# Altium footprint library Tool.PcbLib: 85 footprints (part 6 of 6)
Each footprint in its own frame and in the unit in brackets; x right, y up, seen from the top. Pads: shape width x height; smd on the part's side, far side on the other; paste and mask are expansions set on the pad; w line width, h text height; cw(c..) or ccw(c..) is an arc to the next point about the centre after c.
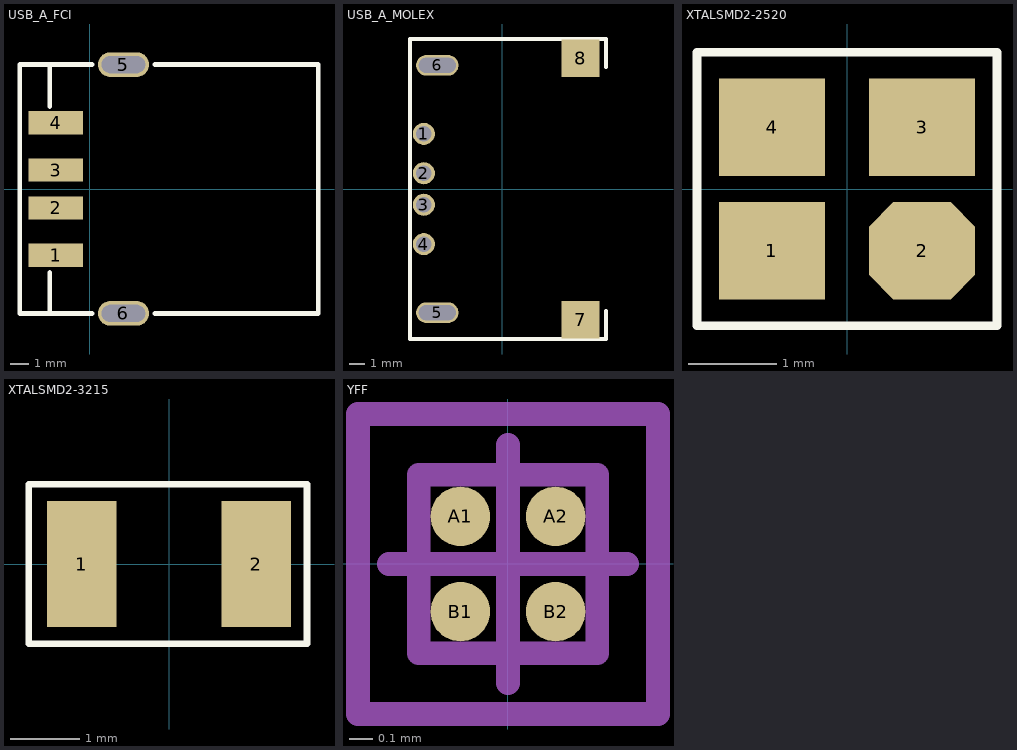
[diagram p5: the footprints below, top view; thin cyan lines are the x and y axes]

## USB_A_FCI [mm] "厂家：FCI，型号：87583-3010BLF"
pads (6):
  rect 2.88x1.22 smd: 1(-1.79,-3.5) 2(-1.79,-1) 3(-1.79,1) 4(-1.79,3.5)
  oval 2.7x1.3 hole 0.9 slot 2.3 at 0 deg: 5(1.79,6.57) 6(1.79,-6.57)
Top Overlay:
  lines w0.254: -3.683,-6.57 -3.683,6.57 ; -3.671,-6.57 0.139,-6.57 ; -3.671,6.57 0.139,6.57 ; -2.101,-6.57 -2.101,-4.411 ; -2.101,4.352 -2.101,6.511 ; 3.441,-6.57 12.07,-6.57 12.07,6.57 3.441,6.57
3D body: height 7, standoff 0, extent -3.332,-6.504 12.092,6.504

## USB_A_MOLEX [mm] "厂家：MOLEX，型号：48258001_sd"
pads (8):
  round 1.4 hole 0.97: 1(-4.975,3.5) 2(-4.975,1) 3(-4.975,-1) 4(-4.975,-3.5)
  oval 2.7x1.3 hole 0.95 slot 2.35 at 0 deg: 5(-4.125,-7.85) 6(-4.125,7.85)
  rect 2.4x2.4 smd: 7(4.975,-8.3) 8(4.975,8.3)
Top Overlay:
  lines w0.254: 6.59,-7.747 6.59,-9.525 -5.856,-9.525 -5.856,9.525 6.59,9.525 6.59,7.747
3D body: height 5.12, standoff 0, extent -6.277,-9.602 6.277,9.602

## XTALSMD2-2520 [mm]
pads (4):
  rect 1.2x1.1 smd: 1(-0.85,-0.7) 3(0.85,0.7) 4(-0.85,0.7)
  oct 1.2x1.1 smd: 2(0.85,-0.7)
Top Overlay:
  lines w0.1: 1.676,-1.549 -1.7,-1.549 -1.7,1.55 1.7,1.55 1.7,-1.55
3D body: height 0.55, standoff 0, extent -1.552,-1.352 1.552,1.352

## XTALSMD2-3215 [mm]
pads (2):
  rect 1x1.8 smd: 1(-1.25,0) 2(1.25,0)
Top Overlay:
  lines w0.1: -2.01,-1.143 1.976,-1.143 1.976,1.143 -2.01,1.143 -2.01,-1.143
3D body: height 0.9, standoff 0, extent -1.852,-1.002 1.852,1.002

## YFF [mm] "BGA, 4-Leads, Body 0.8x0.8mm,  Pitch 0.40mm"
height 0.625
pads (4):
  round 0.25 smd: A1(-0.2,0.2) A2(0.2,0.2) B1(-0.2,-0.2) B2(0.2,-0.2)
Mechanical 13:
  lines w0.1: -0.375,-0.375 -0.375,0.375 0.375,0.375 0.375,-0.375 -0.375,-0.375
Mechanical 15:
  lines w0.1: -0.5,0 0.5,0 ; 0,-0.5 0,0.5 ; -0.63,-0.63 -0.63,0.63 0.63,0.63 0.63,-0.63 -0.63,-0.63
3D body: height 0.63, standoff 0.3, extent -0.375,-0.375 0.375,0.375